# Altium footprint library MLACH_obsolete.PCBLIB: 154 footprints (part 9 of 10)
Each footprint in its own frame and in the unit in brackets; x right, y up, seen from the top. Pads: shape width x height; smd on the part's side, far side on the other; paste and mask are expansions set on the pad; w line width, h text height; cw(c..) or ccw(c..) is an arc to the next point about the centre after c.
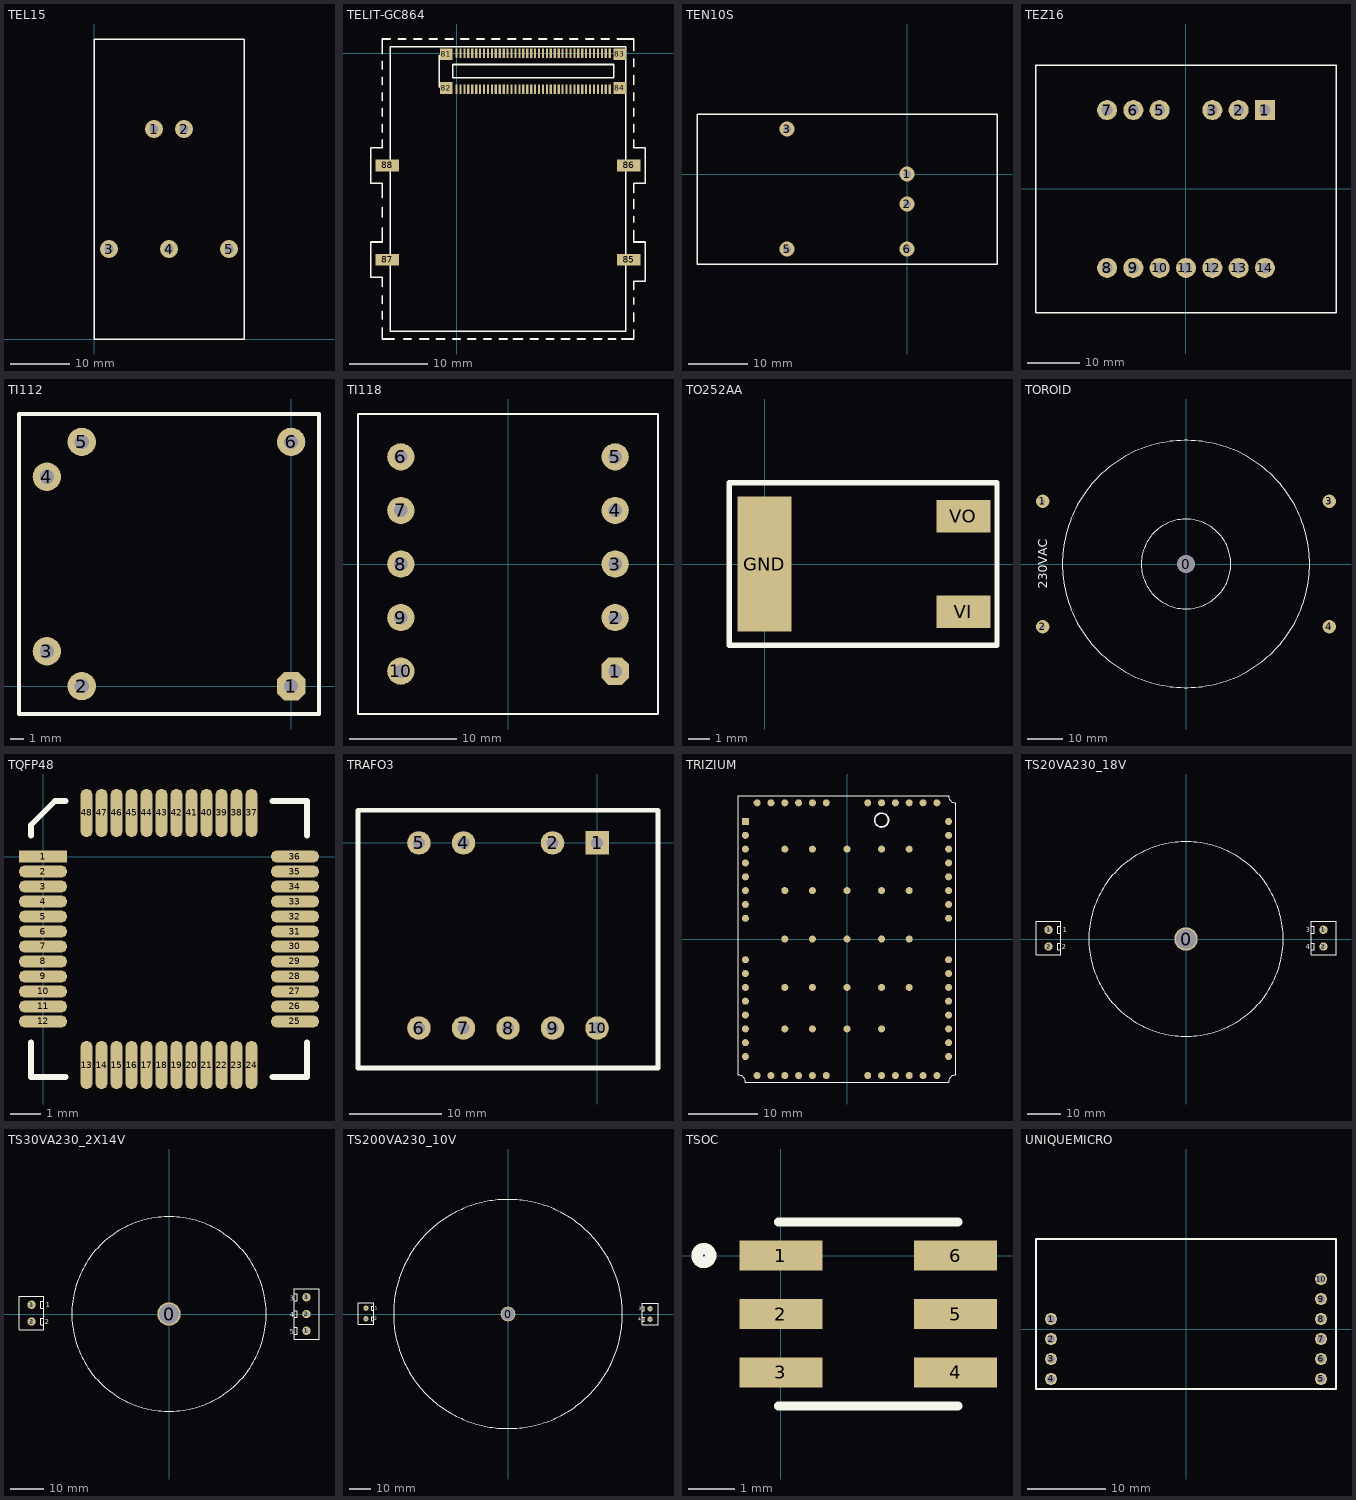
[diagram p8: the footprints below, top view; thin cyan lines are the x and y axes]

## TEL15 [mil]
pads (5):
  round 120 hole 60: 1(400,1400) 2(600,1400) 3(100,600) 4(500,600) 5(900,600)
TopOverlay:
  lines w10: 0,0 0,2000 1000,2000 1000,0 0,0

## TELIT-GC864 [mil]
pads (88):
  oval 11x47 smd: 1(0,0)
  rect 11x47 smd: 2(0,-181.1) 3(19.68,0) 4(19.68,-181.1) 5(39.37,0) 6(39.37,-181.1) 7(59.06,0) 8(59.06,-181.1) 9(78.74,0) 10(78.74,-181.1) 11(98.43,0) 12(98.43,-181.1) 13(118.11,0) 14(118.11,-181.1) 15(137.8,0) 16(137.8,-181.1) 17(157.48,0) 18(157.48,-181.1) 19(177.17,0) 20(177.17,-181.1) 21(196.85,0) 22(196.85,-181.1) 23(216.54,0) 24(216.54,-181.1) 25(236.22,0) 26(236.22,-181.1) 27(255.91,0) 28(255.91,-181.1) 29(275.59,0) 30(275.59,-181.1) 31(295.28,0) 32(295.28,-181.1) 33(314.96,0) 34(314.96,-181.1) 35(334.65,0) 36(334.65,-181.1) 37(354.33,0) 38(354.33,-181.1) 39(374.02,0) 40(374.02,-181.1) 41(393.7,0) 42(393.7,-181.1) 43(413.39,0) 44(413.39,-181.1) 45(433.07,0) 46(433.07,-181.1) 47(452.76,0) 48(452.76,-181.1) 49(472.44,0) 50(472.44,-181.1) 51(492.13,0) 52(492.13,-181.1) 53(511.81,0) 54(511.81,-181.1) 55(531.5,0) 56(531.5,-181.1) 57(551.18,0) 58(551.18,-181.1) 59(570.87,0) 60(570.87,-181.1) 61(590.55,0) 62(590.55,-181.1) 63(610.24,0) 64(610.24,-181.1) 65(629.92,0) 66(629.92,-181.1) 67(649.61,0) 68(649.61,-181.1) 69(669.29,0) 70(669.29,-181.1) 71(688.98,0) 72(688.98,-181.1) 73(708.66,0) 74(708.66,-181.1) 75(728.35,0) 76(728.35,-181.1) 77(748.03,0) 78(748.03,-181.1) 79(767.72,0) 80(767.72,-181.1)
  rect 63x59 smd: 81(-51.18,-5.91) 82(-51.18,-175.2) 83(818.9,-5.91) 84(818.9,-175.2)
  rect 118x59 smd: 85(864.17,-1035.43) 86(864.17,-562.99) 87(-348.43,-1035.43) 88(-348.43,-562.99)
TopOverlay:
  lines w8: -372.05,-1375.98 -372.05,-1433.07 -312.99,-1433.07 ; -372.05,-1334.65 -372.05,-1295.28 ; -372.05,-1255.91 -372.05,-1216.54 ; -372.05,-1171.26 -372.05,-1124.02 -431.1,-1124.02 -431.1,-946.85 -372.05,-946.85 -372.05,-875.98 ; -372.05,-822.83 -372.05,-773.62 ; -372.05,-724.41 -372.05,-651.57 -431.1,-651.57 -431.1,-474.41 -372.05,-474.41 -372.05,-435.04 ; -372.05,-395.67 -372.05,-356.3 ; -372.05,-316.93 -372.05,-277.56 ; -372.05,-238.19 -372.05,-198.82 ; -372.05,-159.45 -372.05,-120.08 ; -372.05,-80.71 -372.05,-41.34 ; -372.05,-1.97 -372.05,35.43 -372.05,70.87 -332.68,70.87 ; -293.31,70.87 -253.94,70.87 ; -265.75,-1433.07 -226.38,-1433.07 ; -214.57,70.87 -175.2,70.87 ; -183.07,-1433.07 -139.76,-1433.07 ; -135.83,70.87 -96.46,70.87 ; -100.39,-1433.07 -59.06,-1433.07 ; -86.61,-171.26 -86.61,-9.84 ; -57.09,70.87 -17.72,70.87 ; -19.69,-1433.07 17.72,-1433.07 ; 21.65,70.87 61.02,70.87 ; 57.09,-1433.07 96.46,-1433.07 ; 100.39,70.87 139.76,70.87 ; 135.83,-1433.07 173.23,-1433.07 ; 177.17,70.87 216.54,70.87 ; 214.57,-1433.07 253.94,-1433.07 ; 255.91,70.87 295.28,70.87 ; 285.43,-1433.07 330.71,-1433.07 ; 334.65,70.87 374.02,70.87 ; 370.08,-1433.07 409.45,-1433.07 ; 411.42,70.87 450.79,70.87 ; 448.82,-1433.07 488.19,-1433.07 ; 490.16,70.87 529.53,70.87 ; 525.59,-1433.07 566.93,-1433.07 ; 568.9,70.87 608.27,70.87 ; 606.3,-1433.07 645.67,-1433.07 ; 647.64,70.87 687.01,70.87 ; 687.01,-1433.07 726.38,-1433.07 ; 726.38,70.87 765.75,70.87 ; 761.81,-1433.07 797.24,-1433.07 ; 805.12,70.87 887.8,70.87 887.8,11.81 ; 828.74,-1433.07 887.8,-1433.07 887.8,-1387.8 ; 887.8,-1346.46 887.8,-1301.18 ; 887.8,-1259.84 887.8,-1226.38 ; 887.8,-1187.01 887.8,-1143.7 946.85,-1143.7 946.85,-946.85 887.8,-946.85 887.8,-887.8 ; 887.8,-848.43 887.8,-816.93 ; 887.8,-779.53 887.8,-732.28 ; 887.8,-698.82 887.8,-651.57 946.85,-651.57 946.85,-474.41 887.8,-474.41 887.8,-435.04 ; 887.8,-395.67 887.8,-356.3 ; 887.8,-316.93 887.8,-277.56 ; 887.8,-238.19 887.8,-198.82 ; 887.8,-159.45 887.8,-112.2 ; 887.8,-66.93 887.8,-27.56 ; -332.68,-1393.7 -332.68,31.5 848.43,31.5 848.43,-1393.7 -332.68,-1393.7 ; -19.69,-124.02 -19.69,-57.09 787.4,-57.09 787.4,-124.02 -19.69,-124.02

## TEN10S [mil]
pads (5):
  round 100 hole 50: 1(0,0) 2(0,-200) 3(-800,300) 5(-800,-500) 6(0,-500)
TopOverlay:
  lines w10: -1400,-600 600,-600 600,400 -1400,400 -1400,-600

## TEZ16 [mm]
pads (13):
  rect 3.81x3.81 hole 2.032: 1(15,15)
  round 3.81 hole 2.032: 2(10,15) 3(5,15) 5(-5,15) 6(-10,15) 7(-15,15) 8(-15,-15) 9(-10,-15) 10(-5,-15) 11(0,-15) 12(5,-15) 13(10,-15) 14(15,-15)
TopOverlay:
  lines w0.254: -28.5,-23.5 -28.5,23.5 28.5,23.5 28.5,-23.5 -28.5,-23.5

## TI112 [mil]
pads (6):
  oct 80x80 hole 40: 1(0,0)
  round 80 hole 40: 2(-590.55,0) 3(-688.98,98.42) 4(-688.98,590.55) 5(-590.55,688.98) 6(0,688.98)
TopOverlay:
  lines w10: -767.72,-78.74 -767.72,767.72 78.74,767.72 78.74,-78.74 -767.72,-78.74

## TI118 [mm]
pads (10):
  oct 2.54x2.54 hole 1.27: 1(10,-10)
  round 2.54 hole 1.27: 2(10,-5) 3(10,0) 4(10,5) 5(10,10) 6(-10,10) 7(-10,5) 8(-10,0) 9(-10,-5) 10(-10,-10)
TopOverlay:
  lines w0.203: -14,-14 -14,14 14,14 14,-14 -14,-14

## TO252AA [mil]
pads (3):
  rect 100x250 smd: GND(0,0)
  rect 100x60 smd: VI(368,-88.58) VO(368,88.58)
TopOverlay:
  lines w10: -65,-150 -65,150 430,150 430,-150 -65,-150

## TOROID [mm]
pads (5):
  round 5 hole 5: 0(0,0)
  round 3.81 hole 1.27: 1(-40.64,17.78) 2(-40.64,-17.78) 3(40.64,17.78) 4(40.64,-17.78)
TopOverlay:
  circle w0.254: c0,0 r35.052
  circle w0.254: c0,0 r12.7
  text "230VAC" at -39.37,-6.985 h2.54

## TQFP48 [mm]
pads (48):
  rect 1.6x0.4 smd: 1(0,0)
  oval 1.6x0.4 smd: 2(0,-0.5) 3(0,-1) 4(0,-1.5) 5(0,-2) 6(0,-2.5) 7(0,-3) 8(0,-3.5) 9(0,-4) 10(0,-4.5) 11(0,-5) 12(0,-5.5) 25(8.4,-5.5) 26(8.4,-5) 27(8.4,-4.5) 28(8.4,-4) 29(8.4,-3.5) 30(8.4,-3) 31(8.4,-2.5) 32(8.4,-2) 33(8.4,-1.5) 34(8.4,-1) 35(8.4,-0.5) 36(8.4,0)
  oval 0.4x1.6 smd: 13(1.45,-6.95) 14(1.95,-6.95) 15(2.45,-6.95) 16(2.95,-6.95) 17(3.45,-6.95) 18(3.95,-6.95) 19(4.45,-6.95) 20(4.95,-6.95) 21(5.45,-6.95) 22(5.95,-6.95) 23(6.45,-6.95) 24(6.95,-6.95) 37(6.95,1.45) 38(6.45,1.45) 39(5.95,1.45) 40(5.45,1.45) 41(4.95,1.45) 42(4.45,1.45) 43(3.95,1.45) 44(3.45,1.45) 45(2.95,1.45) 46(2.45,1.45) 47(1.95,1.45) 48(1.45,1.45)
TopOverlay:
  lines w0.2: -0.4,-6.2 -0.4,-7.35 0.75,-7.35 ; -0.4,0.7 -0.4,1.05 0.4,1.85 0.75,1.85 ; 7.65,-7.35 8.8,-7.35 8.8,-6.2 ; 7.65,1.85 8.8,1.85 8.8,0.7

## TRAFO3 [mil]
pads (9):
  rect 100x100 hole 50: 1(0,0)
  round 100 hole 50: 2(-190,0) 4(-570,0) 5(-760,0) 6(-760,-790) 7(-570,-790) 8(-380,-790) 9(-190,-790) 10(0,-790)
TopOverlay:
  lines w20: 230,-960 260,-960 260,140 240,140 -380,140 -1020,140 -1020,-960 240,-960

## TRIZIUM [mil]
pads (80):
  rect 40x40 smd: 1(-578.82,669.29)
  round 40 smd: 2(-578.82,590.55) 3(-578.82,511.81) 4(-578.82,433.07) 5(-578.82,354.33) 6(-578.82,275.59) 7(-578.82,196.85) 8(-578.82,118.11) 9(-578.82,-118.11) 10(-578.82,-196.85) 11(-578.82,-275.59) 12(-578.82,-354.33) 13(-578.82,-433.07) 14(-578.82,-511.81) 15(-578.82,-590.55) 16(-578.82,-669.29) 17(-511.81,-777.64) 18(-433.07,-777.64) 19(-354.33,-777.64) 20(-275.59,-777.64) 21(-196.85,-777.64) 22(-118.11,-777.64) 23(118.11,-777.64) 24(196.85,-777.56) 25(275.59,-777.64) 26(354.33,-777.64) 27(433.07,-777.64) 28(511.81,-777.64) 29(578.82,-669.29) 30(578.82,-590.55) 31(578.82,-511.81) 32(578.82,-433.07) 33(578.82,-354.33) 34(578.82,-275.59) 35(578.82,-196.85) 36(578.82,-118.11) 37(578.82,118.11) 38(578.82,196.85) 39(578.82,275.59) 40(578.82,354.33) 41(578.82,433.07) 42(578.82,511.81) 43(578.82,590.55) 44(578.82,669.29) 45(511.81,775.67) 46(433.07,775.67) 47(354.33,775.67) 48(275.59,775.67) 49(196.85,775.67) 50(118.11,775.67) 51(-118.11,775.67) 52(-196.85,775.67) 53(-275.59,775.67) 54(-354.33,775.67) 55(-433.07,775.67) 56(-511.81,775.67) 57(-354.33,511.73) 58(-354.33,275.51) 59(-354.33,-0.08) 60(-354.33,-275.67) 61(-354.33,-511.89) 62(-196.85,511.73) 63(-196.85,275.51) 64(-196.85,-0.08) 65(-196.85,-275.67) 66(-196.85,-511.89) 67(0,511.81) 68(0,275.59) 69(0,0) 70(0,-275.59) 71(0,-511.81) 72(196.85,511.81) 73(196.85,275.59) 74(196.85,0) 75(196.85,-275.59) 76(196.85,-511.81) 77(354.33,511.73) 78(354.33,275.51) 79(354.33,-0.08) 80(354.33,-275.67)
TopOverlay:
  circle w10: c196.85,677.17 r39.37
  lines w5: -618.11,-775.59 cw(c-618.11,-814.96) -578.74,-814.96 578.74,-814.96 cw(c618.11,-814.96) 618.11,-775.59 618.11,775.59 cw(c618.11,814.96) 578.74,814.96 -618.11,814.96 -618.11,-775.59

## TS20VA230_18V [mm]
pads (5):
  round 7 hole 6: 0(0,0)
  round 2.5 hole 1.2: 1(-41,2.75) 1(41,2.75) 2(-41,-2.25) 2(41,-2.25)
TopOverlay:
  circle w0.254: c0,0 r29
  lines w0.203: -37.4,-3.25 -38.206,-3.25 -38.206,-1.25 -37.4,-1.25 ; -37.4,1.75 -38.206,1.75 -38.206,3.75 -37.4,3.75 ; 37.4,-3.25 38.206,-3.25 38.206,-1.25 37.4,-1.25 ; 37.4,1.75 38.206,1.75 38.206,3.75 37.4,3.75 ; -44.75,-4.75 -37.4,-4.75 -37.4,5.25 -44.75,5.25 -44.75,-4.75 ; 37.4,-4.75 37.4,5.25 44.75,5.25 44.75,-4.75 37.4,-4.75
  text "2" at -37,-3 h1.52
  text "1" at -36.75,2 h1.52
  text "4" at 35.8,-3.1 h1.52
  text "3" at 35.8,2 h1.52
3D body: height 28, standoff 0, extent -29,-29 28.771,28.886
3D body: height 16, standoff 0, extent -44.75,-4.75 -37.4,5.25
3D body: height 17.5, standoff 14.5, extent -42.5,-3.742 -39.513,-0.758
3D body: height 17.5, standoff 14.5, extent -42.5,1.258 -39.513,4.242
3D body: height 17.5, standoff 14.5, extent 39.513,1.258 42.5,4.242
3D body: height 17.5, standoff 14.5, extent 39.513,-3.742 42.5,-0.758
3D body: height 16, standoff 0, extent 37.4,-4.75 44.75,5.25

## TS30VA230_2X14V [mm]
pads (6):
  round 7 hole 6: 0(0,0)
  round 2.5 hole 1.2: 1(-41,2.75) 1(41,-5) 2(-41,-2.25) 2(41,0) 3(41,5)
TopOverlay:
  circle w0.254: c0,0 r29
  lines w0.203: -37.4,-3.25 -38.206,-3.25 -38.206,-1.25 -37.4,-1.25 ; -37.4,1.75 -38.206,1.75 -38.206,3.75 -37.4,3.75 ; 37.4,-6 38.206,-6 38.206,-4 37.4,-4 ; 37.4,-1 38.206,-1 38.206,1 37.4,1 ; 37.4,4 38.206,4 38.206,6 37.4,6 ; -44.75,-4.75 -44.75,5.25 -37.4,5.25 -37.4,-4.75 -44.75,-4.75 ; 37.4,-7.5 44.75,-7.5 44.75,7.5 37.4,7.5 37.4,-7.5
  text "3" at 36,4 h1.52
  text "4" at 36,-1 h1.52
  text "5" at 36,-6 h1.52
  text "1" at -36.75,2 h1.52
  text "2" at -37,-3 h1.52
3D body: height 17.5, standoff 14.5, extent 39.513,-6.492 42.5,-3.508
3D body: height 17.5, standoff 14.5, extent 39.513,-1.492 42.5,1.492
3D body: height 17.5, standoff 14.5, extent 39.513,3.508 42.5,6.492
3D body: height 16, standoff 0, extent 37.4,-7.5 44.75,7.5
3D body: height 17.5, standoff 14.5, extent -42.5,1.258 -39.513,4.242
3D body: height 17.5, standoff 14.5, extent -42.5,-3.742 -39.513,-0.758
3D body: height 16, standoff 0, extent -44.75,-4.75 -37.4,5.25
3D body: height 33, standoff 0, extent -29,-29 28.771,28.886

## TS200VA230_10V [mm]
pads (5):
  round 7 hole 6: 0(0,0)
  round 2.5 hole 1.2: 1(-67,2.75) 2(-67,-2.25) 3(67,2.5) 4(67,-2.5)
TopOverlay:
  circle w0.254: c0,0 r54
  lines w0.203: -63.4,-3.25 -64.206,-3.25 -64.206,-1.25 -63.4,-1.25 ; -63.4,1.75 -64.206,1.75 -64.206,3.75 -63.4,3.75 ; 63.4,-3.5 64.206,-3.5 64.206,-1.5 63.4,-1.5 ; 63.4,1.5 64.206,1.5 64.206,3.5 63.4,3.5 ; -70.75,-4.75 -63.4,-4.75 -63.4,5.25 -70.75,5.25 -70.75,-4.75 ; 63.4,-5 63.4,5 70.75,5 70.75,-5 63.4,-5
  text "2" at -63,-3 h1.52
  text "1" at -62.75,2 h1.52
  text "3" at 61.75,1.75 h1.52
  text "4" at 61.5,-3.25 h1.52
3D body: height 33, standoff 0, extent -54,-54.143 53.574,53.643
3D body: height 16, standoff 0, extent -70.75,-4.75 -63.4,5.25
3D body: height 17.5, standoff 14.5, extent -68.5,-3.742 -65.513,-0.758
3D body: height 17.5, standoff 14.5, extent -68.5,1.258 -65.513,4.242
3D body: height 17.5, standoff 14.5, extent 65.513,1.008 68.5,3.992
3D body: height 17.5, standoff 14.5, extent 65.513,-3.992 68.5,-1.008
3D body: height 16, standoff 0, extent 63.4,-5 70.75,5

## TSOC [mm]
pads (6):
  rect 1.8x0.65 smd: 1(0,0) 2(0,-1.27) 3(0,-2.54) 4(3.8,-2.54) 5(3.8,-1.27) 6(3.8,0)
TopOverlay:
  circle w0.25: c-1.674,0 r0.15
  lines w0.2: -0.05,-3.27 3.85,-3.27 ; -0.05,0.73 3.85,0.73

## UNIQUEMICRO [mil]
pads (10):
  round 60 hole 40: 1(-675,50) 2(-675,-50) 3(-675,-150) 4(-675,-250) 5(675,-250) 6(675,-150) 7(675,-50) 8(675,50) 9(675,150) 10(675,250)
TopOverlay:
  lines w8: -750,-300 -750,450 750,450 750,-300 -750,-300